# Altium schematic symbol library Picoblade_532610371.Schlib: 1 symbol
Pins are listed as number, name and electrical type; pins without a type are passive.

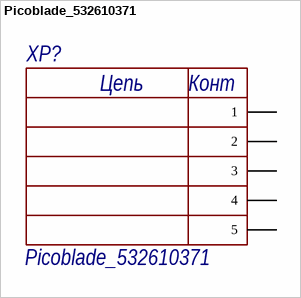
[diagram p0: symbol Picoblade_532610371]

## Picoblade_532610371
designator XP?
Picoblade 3-pin разъем
pins: 1, 2, 3, 4, 5
text: Цепь; Конт